# Altium schematic symbol library module.SchLib: 34 symbols
Pins are listed as number, name and electrical type; pins without a type are passive.

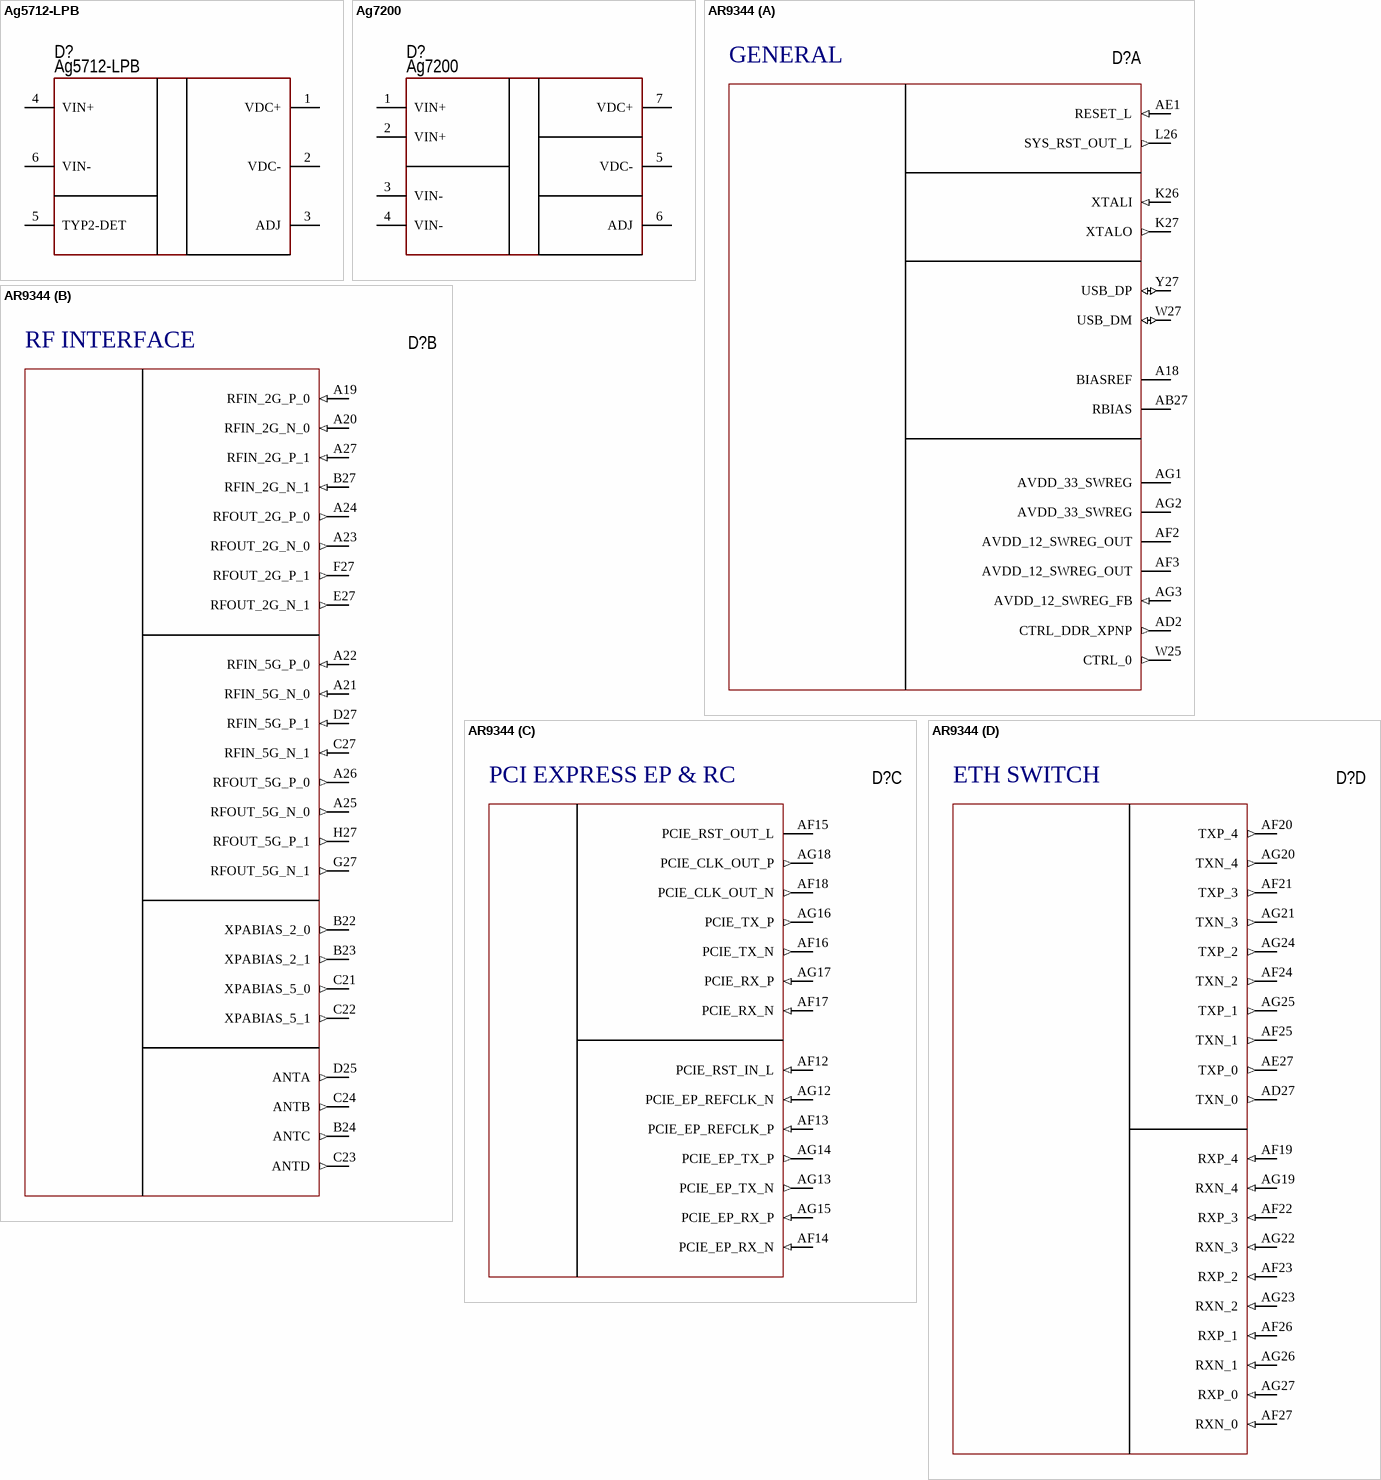
[diagram p0: symbols Ag5712-LPB to AR9344]

## Ag5712-LPB
designator D?  PartNumber: Ag5712-LPB
PoE PD converter; Manufacturer: Silver Telecom; TypeInterface: Ethernet; Voltage: 40...57V; HelpURL: https://silvertel.com/images/datasheets/Ag5700LPB-datasheet-minature%20IEEE802_3At%2024W%20power-over-ethernet%20module.pdf; Package: 31.75x20.32x13mm; ComponentType: PoE PD module; ValueManufacturerPartNumber: =ComponentType+', '+TypeStandart+', '+TypeInterface+', '+Temperature+', '+Package; Temperature: -40...+85°C
footprint MOD: AG5700-LPB
pins: 1 VDC+ (power), 2 VDC- (power), 3 ADJ, 4 VIN+ (power), 5 TYP2-DET, 6 VIN- (power)

## Ag7200
designator D?  PartNumber: Ag7200
DC/DC converter 20W; Manufacturer: Silver Telecom; InputVoltage: 5...15V; OutputVoltage: 36...57V; HelpURL: https://silvertel.com/images/datasheets/Ag7200-datasheet-20W-Isolated-57V-DC-DC-Boost-Converter-Module.pdf?_gl=1*17cjuq9*_up*MQ..*_gs*MQ..&gclid=CjwKCAjw3f_BBhAPEiwAaA3K5E97CBhWwPdFYdN1sbmhFfbjzRM8-UfQm90ZNIKu5eId4kfvsqbOuxoCPzIQAvD_BwE&gbraid=0AAAAAD_aoMibieYnhT7pEk2TKAHqrleRV; Package: 56x14x19mm; ComponentType: Isolated DC/DC; ValueManufacturerPartNumber: =ComponentType+', '+OutputVoltagr+', '+InputVoltage+', '+Temperature+', '+Package; Temperature: -40...+85°C
footprint MOD: Ag7200 (DC-DC)
pins: 1 VIN+ (power), 2 VIN+ (power), 3 VIN- (power), 4 VIN- (power), 5 VDC- (power), 6 ADJ, 7 VDC+ (power)

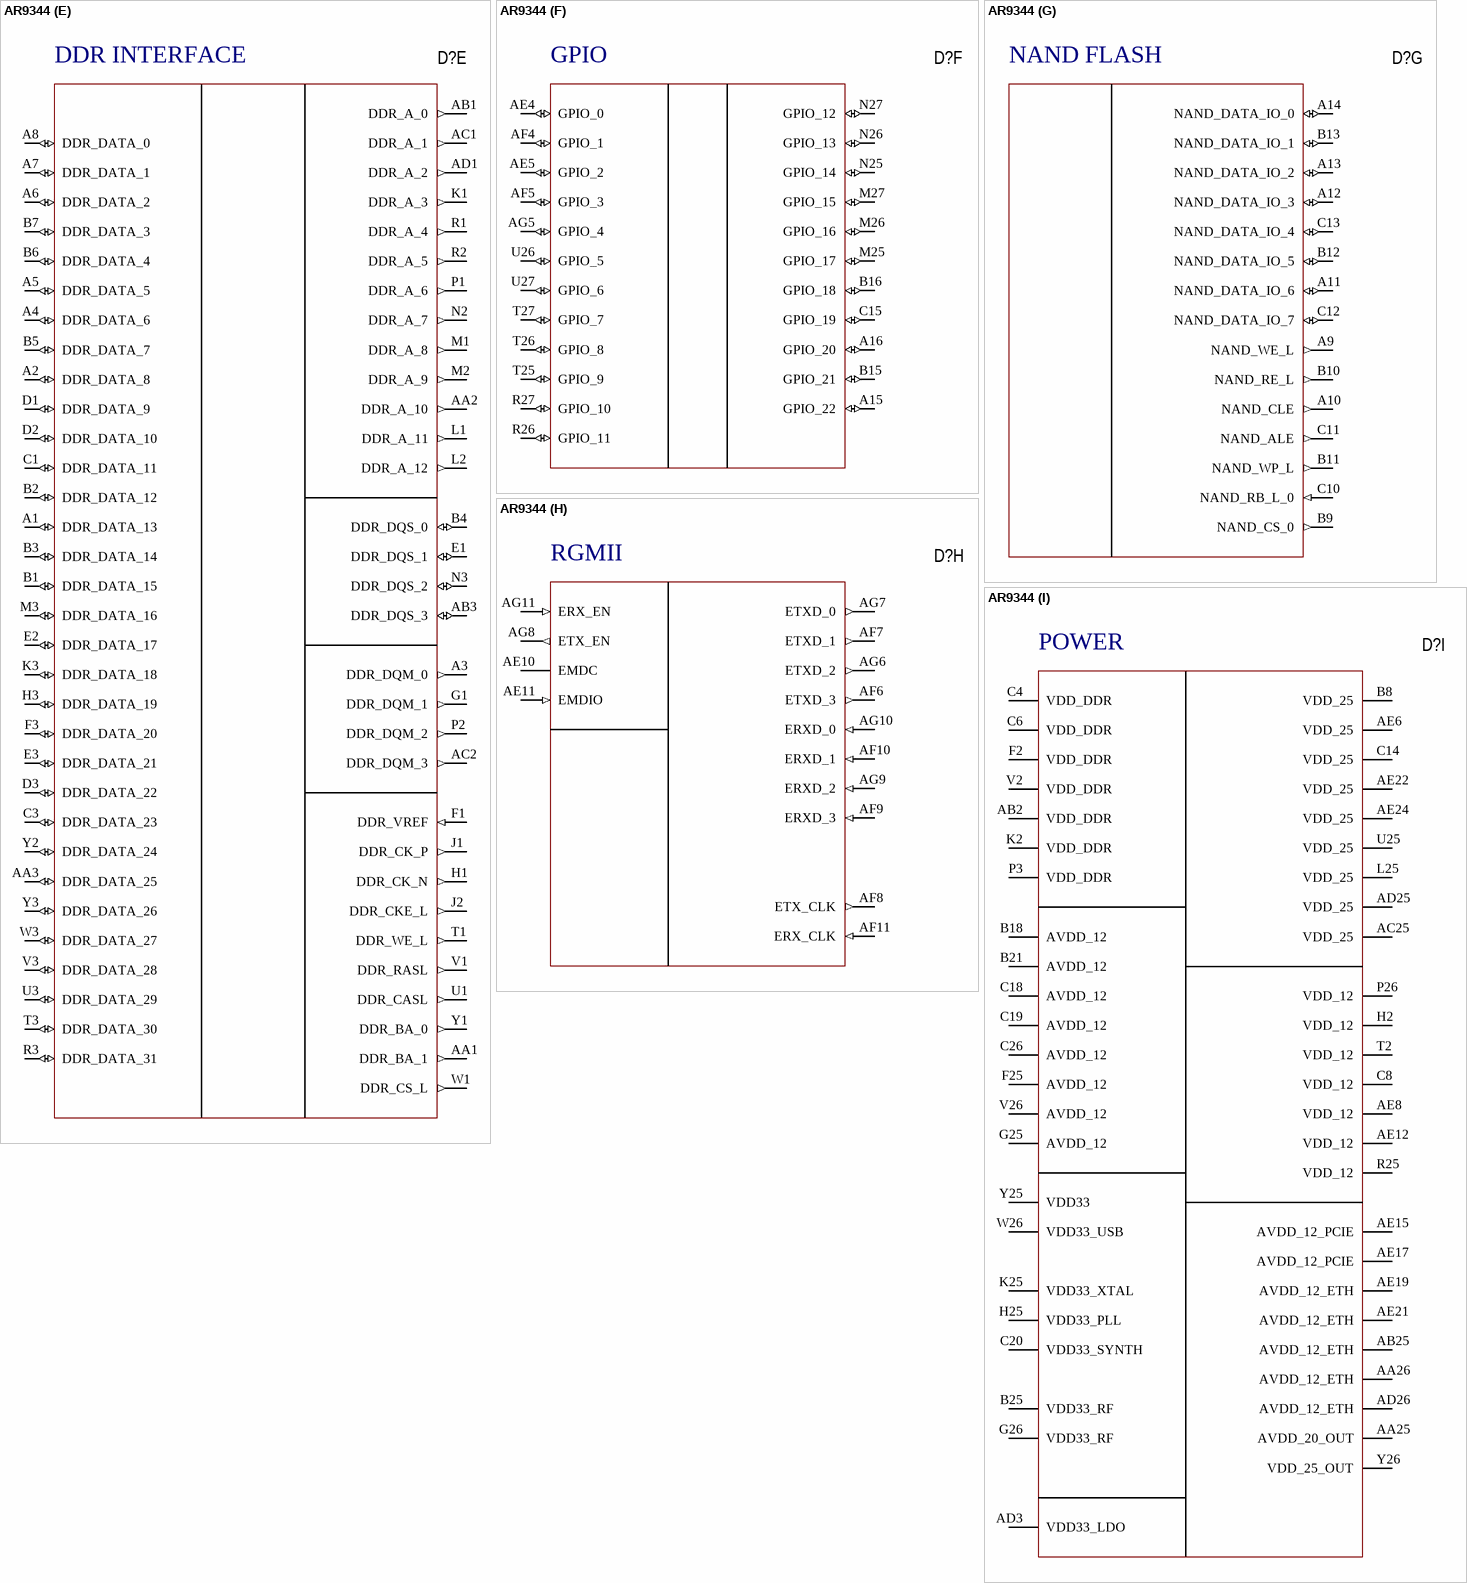
[diagram p1: symbol AR9344]

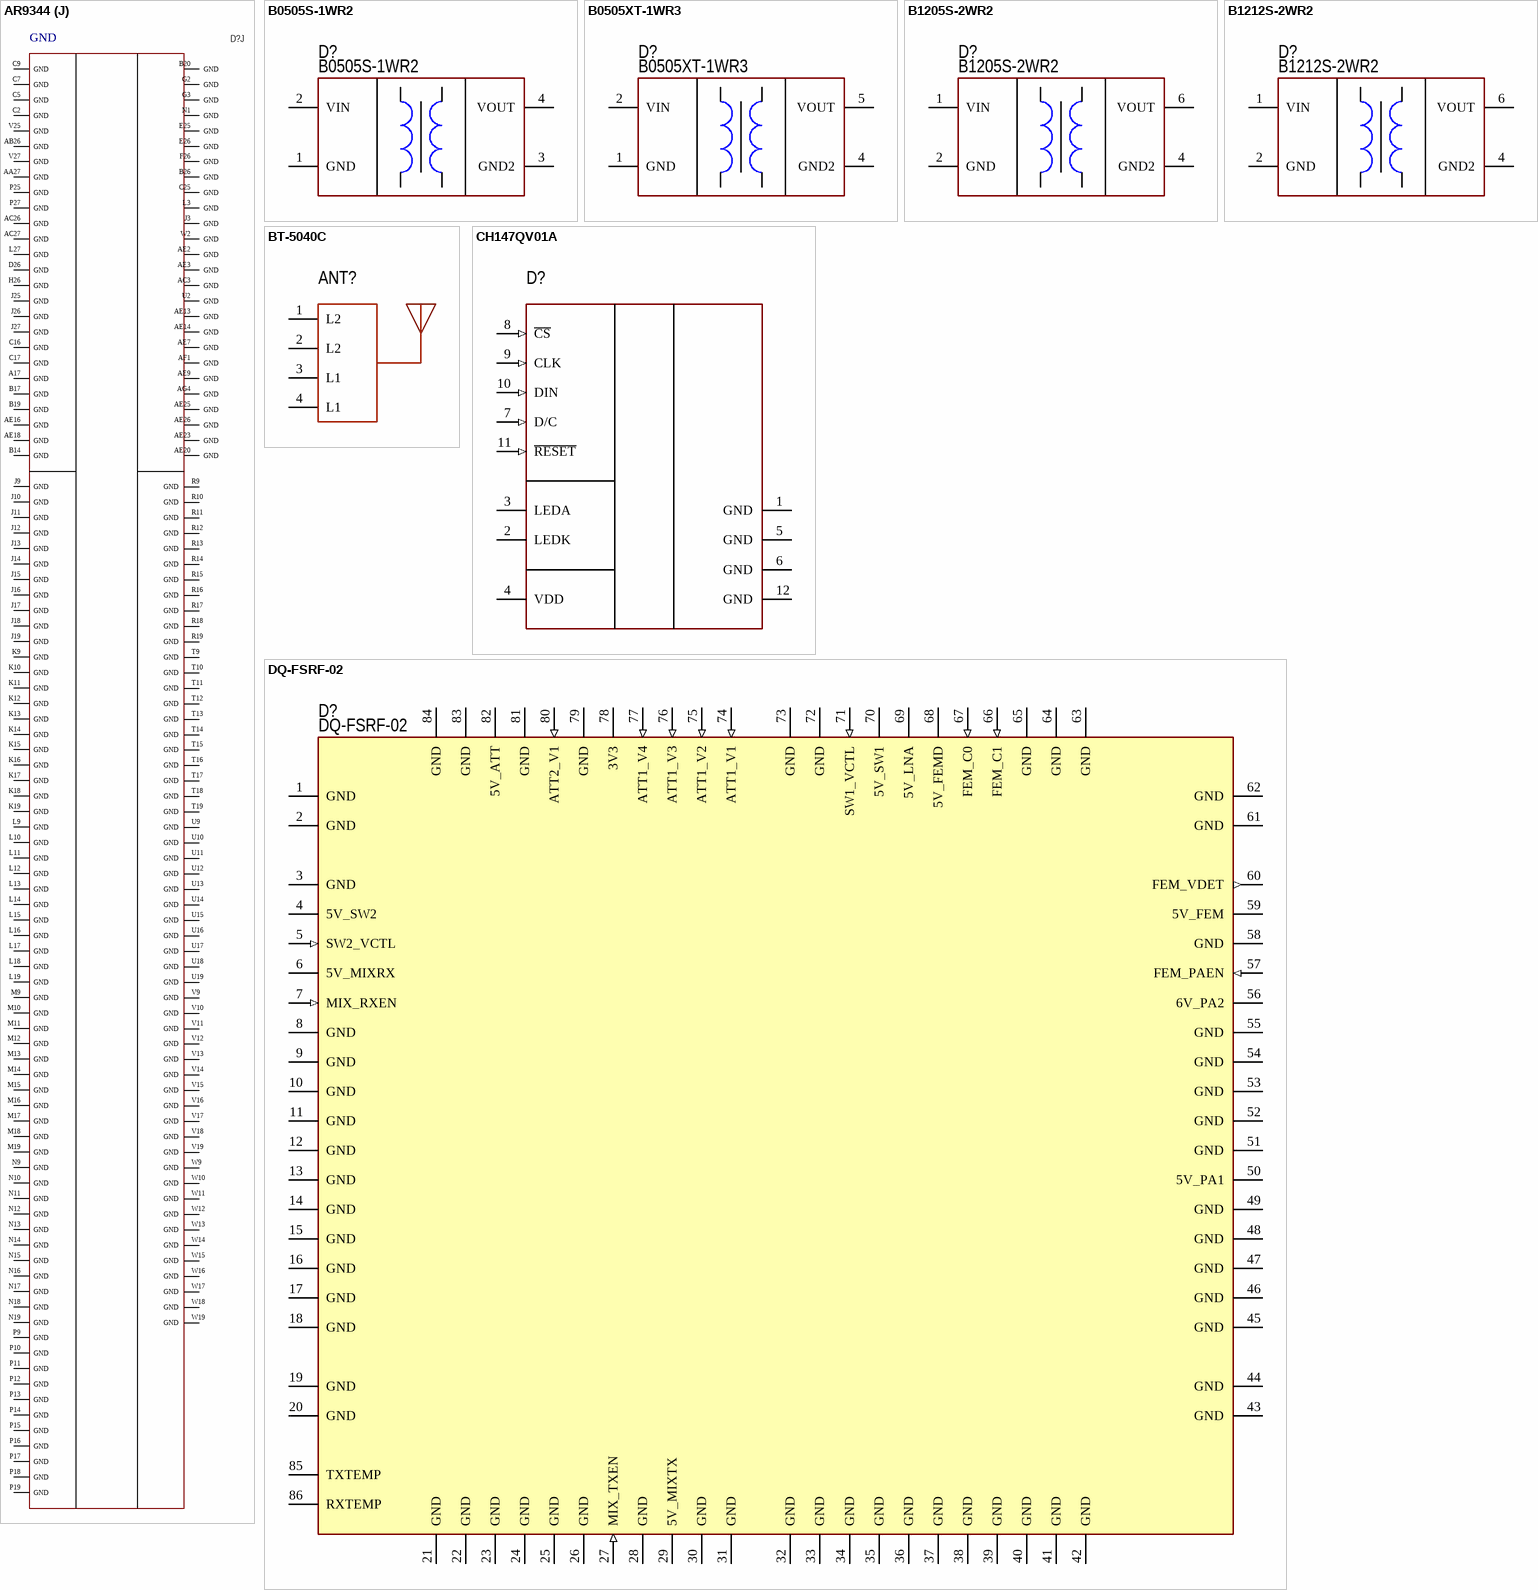
[diagram p2: symbols AR9344 to DQ-FSRF-02]

## AR9344
designator D?
Dual-band Wi-Fi SoC; Manufacturer: Atheros; ValueManufacturerPartNumber: Wi-Fi SoC, WiFi 802.11 b/g/n (802.11n up to 150 Mbps), MIPS 74kc, PCI, USB, xMII, UART, I2S, GPIO, ADC, DAC, -40...+85°C, 409-pin BGA; Core: MIPS 74kc; TypeInterface: PCI, USB, xMII, UART, I2S, GPIO, ADC, DAC; TypeStandart: WiFi 802.11 b/g/n (802.11n up to 150 Mbps); Package: 409-pin BGA; ComponentType: Wi-Fi SoC; Temperature: -40...+85°C
footprint 409-BGA (pitch 0.65 mm)
part A pins: A18 BIASREF, AB27 RBIAS, AD2 CTRL_DDR_XPNP (out), AE1 RESET_L (in), AF2 AVDD_12_SWREG_OUT (power), AF3 AVDD_12_SWREG_OUT (power), AG1 AVDD_33_SWREG (power), AG2 AVDD_33_SWREG (power), AG3 AVDD_12_SWREG_FB (in), K26 XTALI (in), K27 XTALO (out), L26 SYS_RST_OUT_L (out), W25 CTRL_0 (out), W27 USB_DM (io), Y27 USB_DP (io)
part B pins: A19 RFIN_2G_P_0 (in), A20 RFIN_2G_N_0 (in), A21 RFIN_5G_N_0 (in), A22 RFIN_5G_P_0 (in), A23 RFOUT_2G_N_0 (out), A24 RFOUT_2G_P_0 (out), A25 RFOUT_5G_N_0 (out), A26 RFOUT_5G_P_0 (out), A27 RFIN_2G_P_1 (in), B22 XPABIAS_2_0 (out), B23 XPABIAS_2_1 (out), B24 ANTC (out), B27 RFIN_2G_N_1 (in), C21 XPABIAS_5_0 (out), C22 XPABIAS_5_1 (out), C23 ANTD (out), C24 ANTB (out), C27 RFIN_5G_N_1 (in), D25 ANTA (out), D27 RFIN_5G_P_1 (in), E27 RFOUT_2G_N_1 (out), F27 RFOUT_2G_P_1 (out), G27 RFOUT_5G_N_1 (out), H27 RFOUT_5G_P_1 (out)
part C pins: AF12 PCIE_RST_IN_L (in), AF13 PCIE_EP_REFCLK_P (in), AF14 PCIE_EP_RX_N (in), AF15 PCIE_RST_OUT_L (oc), AF16 PCIE_TX_N (out), AF17 PCIE_RX_N (in), AF18 PCIE_CLK_OUT_N (out), AG12 PCIE_EP_REFCLK_N (in), AG13 PCIE_EP_TX_N (out), AG14 PCIE_EP_TX_P (out), AG15 PCIE_EP_RX_P (in), AG16 PCIE_TX_P (out), AG17 PCIE_RX_P (in), AG18 PCIE_CLK_OUT_P (out)
part D pins: AD27 TXN_0 (out), AE27 TXP_0 (out), AF19 RXP_4 (in), AF20 TXP_4 (out), AF21 TXP_3 (out), AF22 RXP_3 (in), AF23 RXP_2 (in), AF24 TXN_2 (out), AF25 TXN_1 (out), AF26 RXP_1 (in), AF27 RXN_0 (in), AG19 RXN_4 (in), AG20 TXN_4 (out), AG21 TXN_3 (out), AG22 RXN_3 (in), AG23 RXN_2 (in), AG24 TXP_2 (out), AG25 TXP_1 (out), AG26 RXN_1 (in), AG27 RXP_0 (in)
part E pins: A1 DDR_DATA_13 (io), A2 DDR_DATA_8 (io), A3 DDR_DQM_0 (out), A4 DDR_DATA_6 (io), A5 DDR_DATA_5 (io), A6 DDR_DATA_2 (io), A7 DDR_DATA_1 (io), A8 DDR_DATA_0 (io), AA1 DDR_BA_1 (out), AA2 DDR_A_10 (out), AA3 DDR_DATA_25 (io), AB1 DDR_A_0 (out), AB3 DDR_DQS_3 (io), AC1 DDR_A_1 (out), AC2 DDR_DQM_3 (out), AD1 DDR_A_2 (out), B1 DDR_DATA_15 (io), B2 DDR_DATA_12 (io), B3 DDR_DATA_14 (io), B4 DDR_DQS_0 (io), B5 DDR_DATA_7 (io), B6 DDR_DATA_4 (io), B7 DDR_DATA_3 (io), C1 DDR_DATA_11 (io), C3 DDR_DATA_23 (io), D1 DDR_DATA_9 (io), D2 DDR_DATA_10 (io), D3 DDR_DATA_22 (io), E1 DDR_DQS_1 (io), E2 DDR_DATA_17 (io), E3 DDR_DATA_21 (io), F1 DDR_VREF (in), F3 DDR_DATA_20 (io), G1 DDR_DQM_1 (out), H1 DDR_CK_N (out), H3 DDR_DATA_19 (io), J1 DDR_CK_P (out), J2 DDR_CKE_L (out), K1 DDR_A_3 (out), K3 DDR_DATA_18 (io), L1 DDR_A_11 (out), L2 DDR_A_12 (out), M1 DDR_A_8 (out), M2 DDR_A_9 (out), M3 DDR_DATA_16 (io), N2 DDR_A_7 (out), N3 DDR_DQS_2 (io), P1 DDR_A_6 (out), P2 DDR_DQM_2 (out), R1 DDR_A_4 (out), R2 DDR_A_5 (out), R3 DDR_DATA_31 (io), T1 DDR_WE_L (out), T3 DDR_DATA_30 (io), U1 DDR_CASL (out), U3 DDR_DATA_29 (io), V1 DDR_RASL (out), V3 DDR_DATA_28 (io), W1 DDR_CS_L (out), W3 DDR_DATA_27 (io), Y1 DDR_BA_0 (out), Y2 DDR_DATA_24 (io), Y3 DDR_DATA_26 (io)
part F pins: A15 GPIO_22 (io), A16 GPIO_20 (io), AE4 GPIO_0 (io), AE5 GPIO_2 (io), AF4 GPIO_1 (io), AF5 GPIO_3 (io), AG5 GPIO_4 (io), B15 GPIO_21 (io), B16 GPIO_18 (io), C15 GPIO_19 (io), M25 GPIO_17 (io), M26 GPIO_16 (io), M27 GPIO_15 (io), N25 GPIO_14 (io), N26 GPIO_13 (io), N27 GPIO_12 (io), R26 GPIO_11 (io), R27 GPIO_10 (io), T25 GPIO_9 (io), T26 GPIO_8 (io), T27 GPIO_7 (io), U26 GPIO_5 (io), U27 GPIO_6 (io)
part G pins: A9 NAND_WE_L (out), A10 NAND_CLE (out), A11 NAND_DATA_IO_6 (io), A12 NAND_DATA_IO_3 (io), A13 NAND_DATA_IO_2 (io), A14 NAND_DATA_IO_0 (io), B9 NAND_CS_0 (out), B10 NAND_RE_L (out), B11 NAND_WP_L (out), B12 NAND_DATA_IO_5 (io), B13 NAND_DATA_IO_1 (io), C10 NAND_RB_L_0 (in), C11 NAND_ALE (out), C12 NAND_DATA_IO_7 (io), C13 NAND_DATA_IO_4 (io)
part H pins: AE10 EMDC (oc), AE11 EMDIO (in), AF6 ETXD_3 (out), AF7 ETXD_1 (out), AF8 ETX_CLK (out), AF9 ERXD_3 (in), AF10 ERXD_1 (in), AF11 ERX_CLK (in), AG6 ETXD_2 (out), AG7 ETXD_0 (out), AG8 ETX_EN (out), AG9 ERXD_2 (in), AG10 ERXD_0 (in), AG11 ERX_EN (in)
part I pins: AA25 AVDD_20_OUT (power), AA26 AVDD_12_ETH (power), AB2 VDD_DDR (power), AB25 AVDD_12_ETH (power), AC25 VDD_25 (power), AD3 VDD33_LDO (power), AD25 VDD_25 (power), AD26 AVDD_12_ETH (power), AE6 VDD_25 (power), AE8 VDD_12 (power), AE12 VDD_12 (power), AE15 AVDD_12_PCIE (power), AE17 AVDD_12_PCIE (power), AE19 AVDD_12_ETH (power), AE21 AVDD_12_ETH (power), AE22 VDD_25 (power), AE24 VDD_25 (power), B8 VDD_25 (power), B18 AVDD_12 (power), B21 AVDD_12 (power), B25 VDD33_RF (power), C4 VDD_DDR (power), C6 VDD_DDR (power), C8 VDD_12 (power), C14 VDD_25 (power), C18 AVDD_12 (power), C19 AVDD_12 (power), C20 VDD33_SYNTH (power), C26 AVDD_12 (power), F2 VDD_DDR (power), F25 AVDD_12 (power), G25 AVDD_12 (power), G26 VDD33_RF (power), H2 VDD_12 (power), H25 VDD33_PLL (power), K2 VDD_DDR (power), K25 VDD33_XTAL (power), L25 VDD_25 (power), P3 VDD_DDR (power), P26 VDD_12 (power), R25 VDD_12 (power), T2 VDD_12 (power), U25 VDD_25 (power), V2 VDD_DDR (power), V26 AVDD_12 (power), W26 VDD33_USB (power), Y25 VDD33 (power), Y26 VDD_25_OUT (power)
part J pins: A17 GND (power), AA27 GND (power), AB26 GND (power), AC3 GND (power), AC26 GND (power), AC27 GND (power), AE2 GND (power), AE3 GND (power), AE7 GND (power), AE9 GND (power), AE13 GND (power), AE14 GND (power), AE16 GND (power), AE18 GND (power), AE20 GND (power), AE23 GND (power), AE25 GND (power), AE26 GND (power), AF1 GND (power), AG4 GND (power), B14 GND (power), B17 GND (power), B19 GND (power), B20 GND (power), B26 GND (power), C2 GND (power), C5 GND (power), C7 GND (power), C9 GND (power), C16 GND (power), C17 GND (power), C25 GND (power), D26 GND (power), E25 GND (power), E26 GND (power), F26 GND (power), G2 GND (power), G3 GND (power), H26 GND (power), J3 GND (power), J9 GND (power), J10 GND (power), J11 GND (power), J12 GND (power), J13 GND (power), J14 GND (power), J15 GND (power), J16 GND (power), J17 GND (power), J18 GND (power), J19 GND (power), J25 GND (power), J26 GND (power), J27 GND (power), K9 GND (power), K10 GND (power), K11 GND (power), K12 GND (power), K13 GND (power), K14 GND (power), K15 GND (power), K16 GND (power), K17 GND (power), K18 GND (power), K19 GND (power), L3 GND (power), L9 GND (power), L10 GND (power), L11 GND (power), L12 GND (power), L13 GND (power), L14 GND (power), L15 GND (power), L16 GND (power), L17 GND (power), L18 GND (power), L19 GND (power), L27 GND (power), M9 GND (power), M10 GND (power), M11 GND (power), M12 GND (power), M13 GND (power), M14 GND (power), M15 GND (power), M16 GND (power), M17 GND (power), M18 GND (power), M19 GND (power), N1 GND (power), N9 GND (power), N10 GND (power), N11 GND (power), N12 GND (power), N13 GND (power), N14 GND (power), N15 GND (power), N16 GND (power), N17 GND (power), N18 GND (power), N19 GND (power), P9 GND (power), P10 GND (power), P11 GND (power), P12 GND (power), P13 GND (power), P14 GND (power), P15 GND (power), P16 GND (power), P17 GND (power), P18 GND (power), P19 GND (power), P25 GND (power), P27 GND (power), R9 GND (power), R10 GND (power), R11 GND (power), R12 GND (power), R13 GND (power), R14 GND (power), R15 GND (power), R16 GND (power), R17 GND (power), R18 GND (power), R19 GND (power), T9 GND (power), T10 GND (power), T11 GND (power), T12 GND (power), T13 GND (power), T14 GND (power), T15 GND (power), T16 GND (power), T17 GND (power), T18 GND (power), T19 GND (power), U2 GND (power), U9 GND (power), U10 GND (power), U11 GND (power), U12 GND (power), U13 GND (power), U14 GND (power), U15 GND (power), U16 GND (power), U17 GND (power), U18 GND (power), U19 GND (power), V9 GND (power), V10 GND (power), V11 GND (power), V12 GND (power), V13 GND (power), V14 GND (power), V15 GND (power), V16 GND (power), V17 GND (power), V18 GND (power), V19 GND (power), V25 GND (power), V27 GND (power), W2 GND (power), W9 GND (power), W10 GND (power), W11 GND (power), W12 GND (power), W13 GND (power), W14 GND (power), W15 GND (power), W16 GND (power), W17 GND (power), W18 GND (power), W19 GND (power)
part A text: GENERAL
part B text: RF INTERFACE
part C text: PCI EXPRESS EP & RC
part D text: ETH SWITCH
part E text: DDR INTERFACE
part F text: GPIO
part G text: NAND FLASH
part H text: RGMII
part I text: POWER

## B0505S-1WR2
designator D?  PartNumber: B0505S-1WR2
DC/DC converter; Manufacturer: Mornsun; ValueManufacturerPartNumber: DC/DC converter, isolator, 5V 200mA, -40...+105°C, SIP-4; OutputType: isolator; OutputVoltage: 5V 200mA; HelpURL: https://www.chipdip.ru/product/b0505s-1wr2; Package: SIP-4; ComponentType: DC/DC converter; Temperature: -40...+105°C
footprint MOD: SIP-4 (B0505S-1W)
pins: 1 GND (power), 2 VIN (power), 3 GND2 (power), 4 VOUT (power)

## B0505XT-1WR3
designator D?  PartNumber: B0505XT-1WR3
DC/DC converter; Manufacturer: Mornsun; ValueManufacturerPartNumber: DC/DC converter, isolator, 5V 200mA, -40...+105°C, SMD-8; OutputType: isolator; OutputVoltage: 5V 200mA; HelpURL: https://www.mornsun-power.com/html/products/35/0.25-3w-smd.html; Package: SMD-8; ComponentType: DC/DC converter; Temperature: -40...+105°C
footprint MOD: B0505XT-1WR3
pins: 1 GND (power), 2 VIN (power), 4 GND2 (power), 5 VOUT (power)

## B1205S-2WR2
designator D?  PartNumber: B1205S-2WR2
DC/DC converter; Manufacturer: YLPTEC; ValueManufacturerPartNumber: DC/DC converter, isolator, 5V 400mA, -40...+105°C, SIP-7; OutputType: isolator; OutputVoltage: 5V 400mA; HelpURL: https://www.compel.ru/infosheet/MORNSUN/B1212S-2WR2; Package: SIP-7; ComponentType: DC/DC converter; Temperature: -40...+105°C
footprint MOD: SIP-7 (B1205S-2W)
pins: 1 VIN (power), 2 GND (power), 4 GND2 (power), 6 VOUT (power)

## B1212S-2WR2
designator D?  PartNumber: B1212S-2WR2
DC/DC converter; Manufacturer: Mornsun; ValueManufacturerPartNumber: DC/DC converter, isolator, 12V 167mA, -40...+105°C, SIP-7; OutputType: isolator; OutputVoltage: 12V 167mA; HelpURL: https://www.compel.ru/infosheet/MORNSUN/B1212S-2WR2; Package: SIP-7; ComponentType: DC/DC converter; Temperature: -40...+105°C
footprint MOD: SIP-7 (B1212S-2W)
pins: 1 VIN (power), 2 GND (power), 4 GND2 (power), 6 VOUT (power)

## BT-5040C
designator ANT?
GNSS Antenna; Manufacturer: Beitian; HelpURL: https://aliexpress.ru/item/1005001615247261.html?&sku_id=12000016821752174; Package: 50x50x10; ComponentType: GNSS antenna; ValueManufacturerPartNumber: =ComponentType+', '+TypeStandart+', '+Core+', '+TypeInterface+', '+Temperature+', '+Package; Temperature: -40...+85°C
footprint ANT: BT-5040C (Beitan GNSS antenna)
pins: 1 L2, 2 L2, 3 L1, 4 L1

## CH147QV01A
designator D?
Display; Manufacturer: China; PartNumber: CH147QV01A; DotsNumber: 176(RGB)x320; HelpURL: https://www.chenghaolcd.com/sale-14486940-1-47-inch-small-lcd-touch-screen-ips-172-320-with-driver-ic-st7789v3.html; Package: 19.39x36.28x1.46mm; ComponentType: Display; ValueManufacturerPartNumber: =ComponentType+', '+OutputType+', '+OutputVoltage+', '+Temperature+', '+Package; Temperature: -40...+85°C
footprint DISP: 1.47inch ST7789V3
pins: 1 GND (power), 2 LEDK, 3 LEDA, 4 VDD (power), 5 GND (power), 6 GND (power), 7 D/C (in) "Data Command selection", 8 ~{CS} (in), 9 CLK (in), 10 DIN (in), 11 ~{RESET} (in), 12 GND (power)

## DQ-FSRF-02
designator D?  PartNumber: DQ-FSRF-02
Frequency shifter RF board; Manufacturer: DigiQ-RF; ValueManufacturerPartNumber: RF module, -40...+85°C, 46x43.5mm; HelpURL: -; Package: 46x43.5mm; ComponentType: RF module; Temperature: -40...+85°C
footprint MOD: FrequencyShifterRF (V2 Castellated module)
pins: 1 GND (power), 2 GND (power), 3 GND (power), 4 5V_SW2 (power), 5 SW2_VCTL (in), 6 5V_MIXRX (power), 7 MIX_RXEN (in), 8 GND (power), 9 GND (power), 10 GND (power), 11 GND (power), 12 GND (power), 13 GND (power), 14 GND (power), 15 GND (power), 16 GND (power), 17 GND (power), 18 GND (power), 19 GND (power), 20 GND (power), 21 GND (power), 22 GND (power), 23 GND (power), 24 GND (power), 25 GND (power), 26 GND (power), 27 MIX_TXEN (in), 28 GND (power), 29 5V_MIXTX (power), 30 GND (power), 31 GND (power), 32 GND (power), 33 GND (power), 34 GND (power), 35 GND (power), 36 GND (power), 37 GND (power), 38 GND (power), 39 GND (power), 40 GND (power), 41 GND (power), 42 GND (power), 43 GND (power), 44 GND (power), 45 GND (power), 46 GND (power), 47 GND (power), 48 GND (power), 49 GND (power), 50 5V_PA1 (power), 51 GND (power), 52 GND (power), 53 GND (power), 54 GND (power), 55 GND (power), 56 6V_PA2 (power), 57 FEM_PAEN (in), 58 GND (power), 59 5V_FEM (power), 60 FEM_VDET (out), 61 GND (power), 62 GND (power), 63 GND (power), 64 GND (power), 65 GND (power), 66 FEM_C1 (in), 67 FEM_C0 (in), 68 5V_FEMD (power), 69 5V_LNA (power), 70 5V_SW1 (power), 71 SW1_VCTL (in), 72 GND (power), 73 GND (power), 74 ATT1_V1 (in), 75 ATT1_V2 (in), 76 ATT1_V3 (in), 77 ATT1_V4 (in), 78 3V3 (power), 79 GND (power), 80 ATT2_V1 (in), 81 GND (power), 82 5V_ATT (power), 83 GND (power), 84 GND (power), 85 TXTEMP, 86 RXTEMP

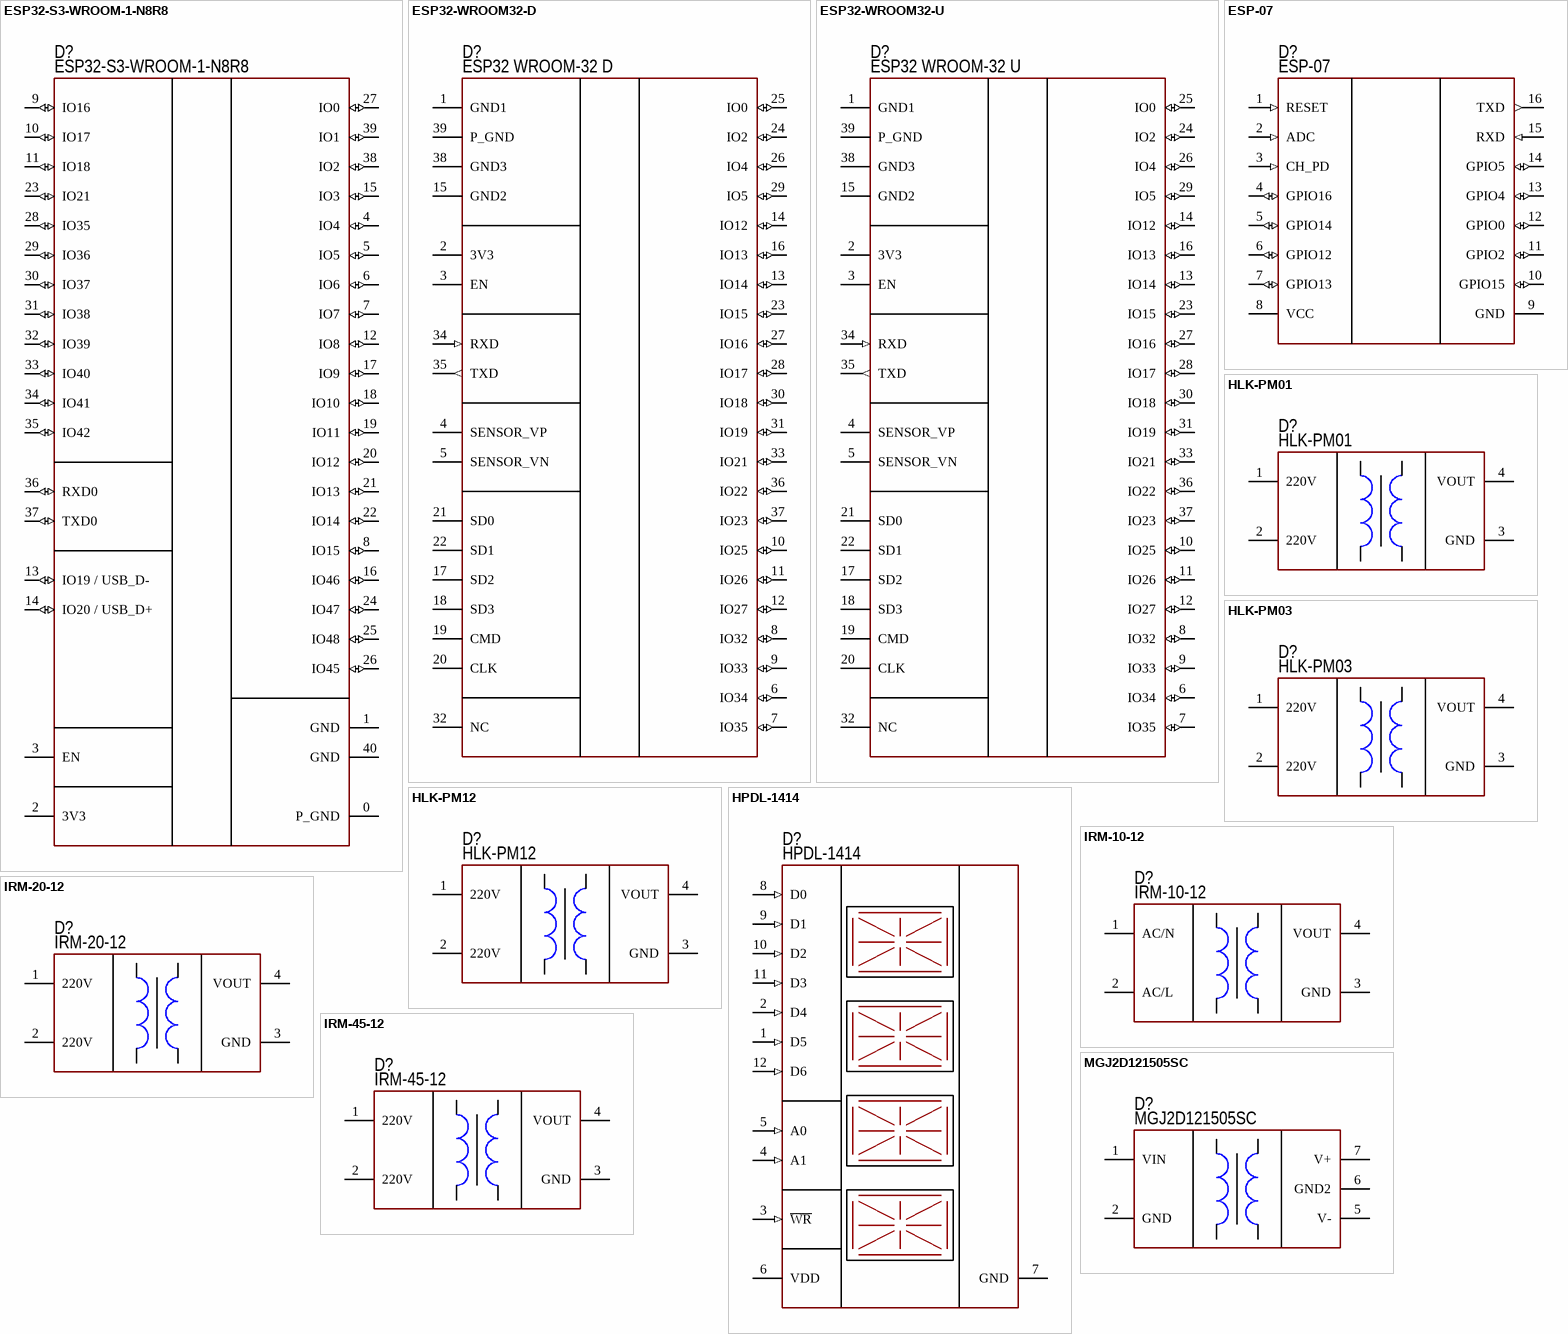
[diagram p3: symbols ESP32-S3-WROOM-1-N8R8 to MGJ2D121505SC]

## ESP32-S3-WROOM-1-N8R8
designator D?  PartNumber: ESP32-S3-WROOM-1-N8R8
Wi-Fi; Manufacturer: Espressif Systems; ValueManufacturerPartNumber: Wi-Fi module, WiFi 802.11 b/g/n (802.11n up to 150 Mbps) / Bluetooth v4.2 BR/EDR and BLE specification, 32 bit, SD card, UART, SPI, SDIO, I2C, LED PWM, Motor PWM, I2S, IR, pulse counter, GPIO, capacitive touch sensor, ADC, DAC, -40...+85°C, 18x25.5x3.1; Core: 32 bit; TypeInterface: SD card, UART, SPI, SDIO, I2C, LED PWM, Motor PWM, I2S, IR, pulse counter, GPIO, capacitive touch sensor, ADC, DAC; TypeStandart: WiFi 802.11 b/g/n (802.11n up to 150 Mbps) / Bluetooth v4.2 BR/EDR and BLE specification; HelpURL: https://www.espressif.com/sites/default/files/documentation/esp32-s3-wroom-1_wroom-1u_datasheet_en.pdf; Package: 18x25.5x3.1; ComponentType: Wi-Fi module; Temperature: -40...+85°C
footprint MOD: ESP32-S3-WROOM-1
pins: 0 P_GND (power), 1 GND (power), 2 3V3 (power), 3 EN, 4 IO4 (io), 5 IO5 (io), 6 IO6 (io), 7 IO7 (io), 8 IO15 (io), 9 IO16 (io), 10 IO17 (io), 11 IO18 (io), 12 IO8 (io), 13 IO19 / USB_D- (io), 14 IO20 / USB_D+ (io), 15 IO3 (io), 16 IO46 (io), 17 IO9 (io), 18 IO10 (io), 19 IO11 (io), 20 IO12 (io), 21 IO13 (io), 22 IO14 (io), 23 IO21 (io), 24 IO47 (io), 25 IO48 (io), 26 IO45 (io), 27 IO0 (io), 28 IO35 (io), 29 IO36 (io), 30 IO37 (io), 31 IO38 (io), 32 IO39 (io), 33 IO40 (io), 34 IO41 (io), 35 IO42 (io), 36 RXD0 (io), 37 TXD0 (io), 38 IO2 (io), 39 IO1 (io), 40 GND (power)

## ESP32-WROOM32-D
designator D?  PartNumber: ESP32 WROOM-32 D
Wi-Fi; Manufacturer: Espressif Systems; ValueManufacturerPartNumber: Wi-Fi module, WiFi 802.11 b/g/n (802.11n up to 150 Mbps) / Bluetooth v4.2 BR/EDR and BLE specification, 32 bit, SD card, UART, SPI, SDIO, I2C, LED PWM, Motor PWM, I2S, IR, pulse counter, GPIO, capacitive touch sensor, ADC, DAC, -40...+85°C, 18x25.5x3.1; Core: 32 bit; TypeInterface: SD card, UART, SPI, SDIO, I2C, LED PWM, Motor PWM, I2S, IR, pulse counter, GPIO, capacitive touch sensor, ADC, DAC; TypeStandart: WiFi 802.11 b/g/n (802.11n up to 150 Mbps) / Bluetooth v4.2 BR/EDR and BLE specification; HelpURL: https://www.espressif.com/sites/default/files/documentation/esp32-wroom-32d_esp32-wroom-32u_datasheet_en.pdf; Package: 18x25.5x3.1; ComponentType: Wi-Fi module; Temperature: -40...+85°C
footprint MOD: ESP32-WROOM32-D
pins: 1 GND1 (power), 2 3V3 (power), 3 EN, 4 SENSOR_VP, 5 SENSOR_VN, 6 IO34 (io), 7 IO35 (io), 8 IO32 (io), 9 IO33 (io), 10 IO25 (io), 11 IO26 (io), 12 IO27 (io), 13 IO14 (io), 14 IO12 (io), 15 GND2 (power), 16 IO13 (io), 17 SD2, 18 SD3, 19 CMD, 20 CLK, 21 SD0, 22 SD1, 23 IO15 (io), 24 IO2 (io), 25 IO0 (io), 26 IO4 (io), 27 IO16 (io), 28 IO17 (io), 29 IO5 (io), 30 IO18 (io), 31 IO19 (io), 32 NC, 33 IO21 (io), 34 RXD (in), 35 TXD (out), 36 IO22 (io), 37 IO23 (io), 38 GND3 (power), 39 P_GND (power)

## ESP32-WROOM32-U
designator D?  PartNumber: ESP32 WROOM-32 U
Wi-Fi; Manufacturer: Espressif Systems; ValueManufacturerPartNumber: Wi-Fi module, WiFi 802.11 b/g/n (802.11n up to 150 Mbps) / Bluetooth v4.2 BR/EDR and BLE specification, 32 bit, SD card, UART, SPI, SDIO, I2C, LED PWM, Motor PWM, I2S, IR, pulse counter, GPIO, capacitive touch sensor, ADC, DAC, -40...+85°C, 18x19.2x3.1; Core: 32 bit; TypeInterface: SD card, UART, SPI, SDIO, I2C, LED PWM, Motor PWM, I2S, IR, pulse counter, GPIO, capacitive touch sensor, ADC, DAC; TypeStandart: WiFi 802.11 b/g/n (802.11n up to 150 Mbps) / Bluetooth v4.2 BR/EDR and BLE specification; HelpURL: https://datasheet.lcsc.com/lcsc/1912261832_Espressif-Systems-ESP32-WROOM-32U_C328062.pdf; Package: 18x19.2x3.1; ComponentType: Wi-Fi module; Temperature: -40...+85°C
footprint MOD: ESP32-WROOM32-U
pins: 1 GND1 (power), 2 3V3 (power), 3 EN, 4 SENSOR_VP, 5 SENSOR_VN, 6 IO34 (io), 7 IO35 (io), 8 IO32 (io), 9 IO33 (io), 10 IO25 (io), 11 IO26 (io), 12 IO27 (io), 13 IO14 (io), 14 IO12 (io), 15 GND2 (power), 16 IO13 (io), 17 SD2, 18 SD3, 19 CMD, 20 CLK, 21 SD0, 22 SD1, 23 IO15 (io), 24 IO2 (io), 25 IO0 (io), 26 IO4 (io), 27 IO16 (io), 28 IO17 (io), 29 IO5 (io), 30 IO18 (io), 31 IO19 (io), 32 NC, 33 IO21 (io), 34 RXD (in), 35 TXD (out), 36 IO22 (io), 37 IO23 (io), 38 GND3 (power), 39 P_GND (power)

## ESP-07
designator D?  PartNumber: ESP-07
Wi-Fi; Manufacturer: Espressif Systems; ValueManufacturerPartNumber: Wi-Fi module, 802.11 b/g/n, 8 bit, SDIO/SPI/UART, -40...+85°C, 21x16mm; Core: 8 bit; TypeInterface: SDIO/SPI/UART; TypeStandart: 802.11 b/g/n; HelpURL: https://www.chipdip.ru/product/esp-07; Package: 21x16mm; ComponentType: Wi-Fi module; Temperature: -40...+85°C
footprint MOD: ESP-07
pins: 1 RESET (in), 2 ADC (in), 3 CH_PD (in), 4 GPIO16 (io), 5 GPIO14 (io), 6 GPIO12 (io), 7 GPIO13 (io), 8 VCC (power), 9 GND (power), 10 GPIO15 (io), 11 GPIO2 (io), 12 GPIO0 (io), 13 GPIO4 (io), 14 GPIO5 (io), 15 RXD (in), 16 TXD (out)

## HLK-PM01
designator D?  PartNumber: HLK-PM01
AC/DC converter; Manufacturer: Mornsun; ValueManufacturerPartNumber: AC/DC converter, isolator, 5V 600mA, 100...240VAC, -40...+105°C, 30x20x15mm; OutputType: isolator; OutputVoltage: 5V 600mA; InputVoltage: 100...240VAC; HelpURL: https://ru.aliexpress.com/item/32408565688.html; Package: 30x20x15mm; ComponentType: AC/DC converter; Temperature: -40...+105°C
footprint MOD: HLK-PM01
pins: 1 220V (power), 2 220V (power), 3 GND (power), 4 VOUT (power)

## HLK-PM03
designator D?  PartNumber: HLK-PM03
AC/DC converter; Manufacturer: Mornsun; ValueManufacturerPartNumber: AC/DC converter, isolator, 3V 900mA, 100...240VAC, -40...+105°C, 30x20x15mm; OutputType: isolator; OutputVoltage: 3V 900mA; InputVoltage: 100...240VAC; HelpURL: https://ru.aliexpress.com/item/32408565688.html; Package: 30x20x15mm; ComponentType: AC/DC converter; Temperature: -40...+105°C
footprint MOD: HLK-PM01
pins: 1 220V (power), 2 220V (power), 3 GND (power), 4 VOUT (power)

## HLK-PM12
designator D?  PartNumber: HLK-PM12
AC/DC converter; Manufacturer: Mornsun; ValueManufacturerPartNumber: AC/DC converter, isolator, 12V 250mA, 100...240VAC, -40...+105°C, 30x20x15mm; OutputType: isolator; OutputVoltage: 12V 250mA; InputVoltage: 100...240VAC; HelpURL: https://ru.aliexpress.com/item/32408565688.html; Package: 30x20x15mm; ComponentType: AC/DC converter; Temperature: -40...+105°C
footprint MOD: HLK-PM01
pins: 1 220V (power), 2 220V (power), 3 GND (power), 4 VOUT (power)

## HPDL-1414
designator D?  PartNumber: HPDL-1414
Display; Manufacturer: Agilent/HP; HelpURL: http://www.farnell.com/datasheets/76528.pdf; Package: HPDL-1414; ComponentType: Display; ValueManufacturerPartNumber: =ComponentType+', '+OutputType+', '+OutputVoltage+', '+Temperature+', '+Package; Temperature: -40...+85°C
footprint DISPLAY: HPDL-1414 (HPDL-1414)
pins: 1 D5 (in), 2 D4 (in), 3 ~{WR} (in), 4 A1 (in), 5 A0 (in), 6 VDD (power), 7 GND (power), 8 D0 (in), 9 D1 (in), 10 D2 (in), 11 D3 (in), 12 D6 (in)

## IRM-10-12
designator D?  PartNumber: IRM-10-12
AC/DC converter; Manufacturer: MEAN WELL; ValueManufacturerPartNumber: AC/DC converter, isolator, 12V 850mA, 85...265VAC, -30...+70°C, 4-DIP; OutputType: isolator; OutputVoltage: 12V 850mA; InputVoltage: 85...265VAC; HelpURL: https://www.digikey.com/products/en?keywords=IRM-10-12; Package: 4-DIP; ComponentType: AC/DC converter; Temperature: -30...+70°C
footprint MOD: IRM-10-12
pins: 1 AC/N (power), 2 AC/L (power), 3 GND (power), 4 VOUT (power)

## IRM-20-12
designator D?  PartNumber: IRM-20-12
AC/DC converter; Manufacturer: MEAN WELL; ValueManufacturerPartNumber: AC/DC converter, isolator, 12V 1.8A, 85...265VAC, -30...+70°C, 4-DIP; OutputType: isolator; OutputVoltage: 12V 1.8A; InputVoltage: 85...265VAC; HelpURL: https://www.digikey.com/products/en?keywords=IRM-20-12; Package: 4-DIP; ComponentType: AC/DC converter; Temperature: -30...+70°C
footprint MOD: IRM-20-12
pins: 1 220V (power), 2 220V (power), 3 GND (power), 4 VOUT (power)

## IRM-45-12
designator D?  PartNumber: IRM-45-12
AC/DC converter; Manufacturer: MEAN WELL; ValueManufacturerPartNumber: AC/DC converter, isolator, 12V 3.8A, 85...265VAC, -30...+70°C, 4-DIP; OutputType: isolator; OutputVoltage: 12V 3.8A; InputVoltage: 85...265VAC; HelpURL: https://www.digikey.com/product-detail/en/mean-well-usa-inc/IRM-45-12/1866-3053-ND/7704678; Package: 4-DIP; ComponentType: AC/DC converter; Temperature: -30...+70°C
footprint MOD: IRM-45-12
pins: 1 220V (power), 2 220V (power), 3 GND (power), 4 VOUT (power)

## MGJ2D121505SC
designator D?  PartNumber: MGJ2D121505SC
DC/DC converter; Manufacturer: Murata; ValueManufacturerPartNumber: DC/DC converter, isolator 5200V, +15/-5V 2W, -40...+100°C, SIP-7; OutputType: isolator 5200V; OutputVoltage: +15/-5V 2W; HelpURL: https://www.digikey.com/product-detail/en/murata-power-solutions-inc/MGJ2D121505SC/811-3001-5-ND/4840068; Package: SIP-7; ComponentType: DC/DC converter; Temperature: -40...+100°C
footprint MOD: MGJ2D121505SC (SIP-7)
pins: 1 VIN (power), 2 GND (power), 5 V- (power), 6 GND2 (power), 7 V+ (power)

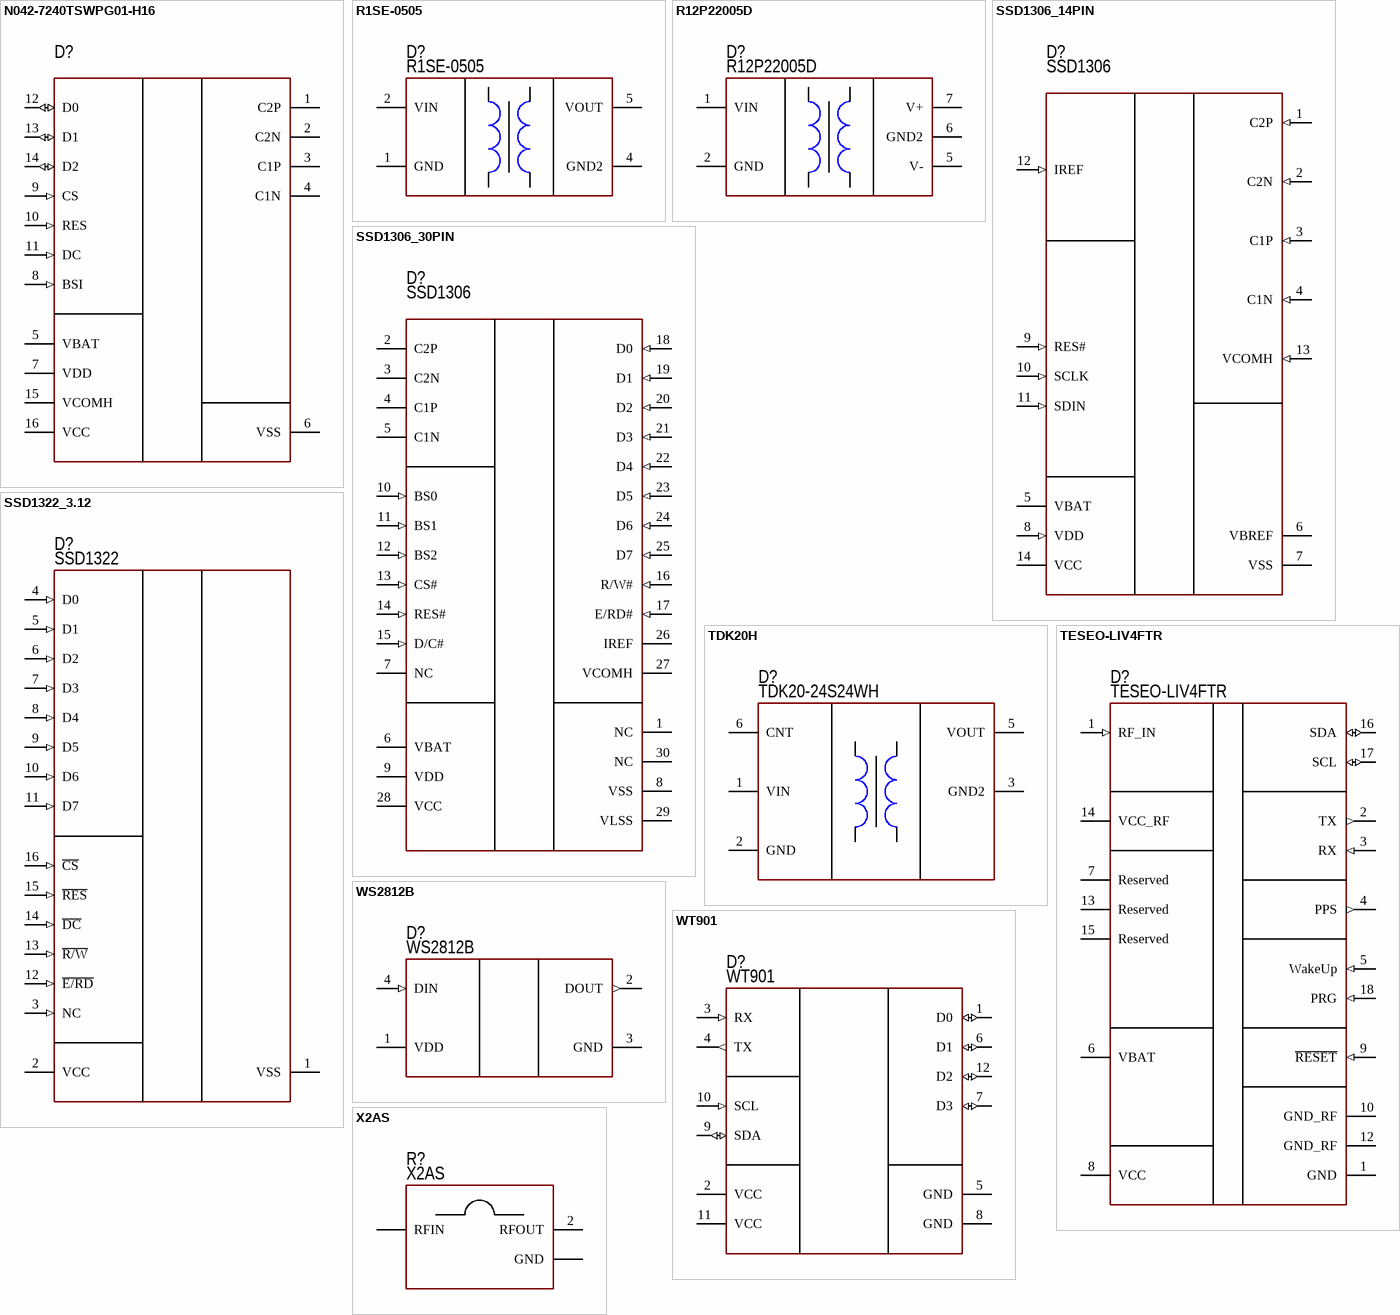
[diagram p4: symbols N042-7240TSWPG01-H16 to X2AS]

## N042-7240TSWPG01-H16
designator D?
OLED Display 72x40; Manufacturer: Newvisio; PartNumber: N042-7240TSWPG01-H16; HelpURL: https://datasheet.lcsc.com/lcsc/2206161801_Newvisio-N042-7240TSWPG01-H16_C2890602.pdf; Package: 12x11x1.25mm; ComponentType: Display; ValueManufacturerPartNumber: =ComponentType+', '+OutputType+', '+OutputVoltage+', '+Temperature+', '+Package; Temperature: -40...+85°C; DotsNumber: 72x40
footprint DISP: 0.42inch OLED
pins: 1 C2P, 2 C2N, 3 C1P, 4 C1N, 5 VBAT (power), 6 VSS (power), 7 VDD (power), 8 BSI (in), 9 CS (in), 10 RES (in), 11 DC (in), 12 D0 (io), 13 D1 (io), 14 D2 (io), 15 VCOMH, 16 VCC (power)

## R1SE-0505
designator D?  PartNumber: R1SE-0505
DC/DC converter; Manufacturer: Recom Power; ValueManufacturerPartNumber: DC/DC converter, isolator, 5V 200mA, -40...+85°C, 8-SMD; OutputType: isolator; OutputVoltage: 5V 200mA; HelpURL: https://www.digikey.com/product-detail/en/recom-power/R1SE-0505/945-3306-ND/4503711; Package: 8-SMD; ComponentType: DC/DC converter; Temperature: -40...+85°C
footprint MOD: R1SE
pins: 1 GND (power), 2 VIN (power), 4 GND2 (power), 5 VOUT (power)

## R12P22005D
designator D?  PartNumber: R12P22005D
DC/DC converter; Manufacturer: Recom Power; ValueManufacturerPartNumber: DC/DC converter, isolator, +20/-5V 2W, -40...+105°C, SIP-7; OutputType: isolator; OutputVoltage: +20/-5V 2W; HelpURL: https://www.digikey.com/product-detail/en/recom-power/R12P22005D/945-3056-ND/5881287; Package: SIP-7; ComponentType: DC/DC converter; Temperature: -40...+105°C
footprint MOD: R12P22005D
pins: 1 VIN (power), 2 GND (power), 5 V- (power), 6 GND2 (power), 7 V+ (power)

## SSD1306_14PIN
designator D?  PartNumber: SSD1306
OLED display 128x32; Manufacturer: https://cdn-shop.adafruit.com/datasheets/SSD1306.pdf; HelpURL: https://cdn-shop.adafruit.com/datasheets/SSD1306.pdf; Package: Module; ComponentType: Display; ValueManufacturerPartNumber: =ComponentType+', '+OutputType+', '+OutputVoltage+', '+Temperature+', '+Package; Temperature: -40...+85°C
footprint MOD: OLED128X32_14PIN (OLED Display 128x32)
pins: 1 C2P (in), 2 C2N (in), 3 C1P (in), 4 C1N (in), 5 VBAT (power), 6 VBREF (power), 7 VSS (power), 8 VDD (in), 9 RES# (in), 10 SCLK (in), 11 SDIN (in), 12 IREF (in), 13 VCOMH (in), 14 VCC (power)

## SSD1306_30PIN
designator D?  PartNumber: SSD1306
OLED display 128x64; Manufacturer: https://cdn-shop.adafruit.com/datasheets/SSD1306.pdf; HelpURL: https://cdn-shop.adafruit.com/datasheets/SSD1306.pdf; Package: Module; ComponentType: Display; ValueManufacturerPartNumber: =ComponentType+', '+OutputType+', '+OutputVoltage+', '+Temperature+', '+Package; Temperature: -40...+85°C
footprint MOD: OLED128X64_30PIN (OLED Display 128x64)
pins: 1 NC (power), 2 C2P, 3 C2N, 4 C1P, 5 C1N, 6 VBAT (power), 7 NC, 8 VSS (power), 9 VDD (power), 10 BS0 (in), 11 BS1 (in), 12 BS2 (in), 13 CS# (in), 14 RES# (in), 15 D/C# (in), 16 R/W# (in), 17 E/RD# (in), 18 D0 (in), 19 D1 (in), 20 D2 (in), 21 D3 (in), 22 D4 (in), 23 D5 (in), 24 D6 (in), 25 D7 (in), 26 IREF, 27 VCOMH, 28 VCC (power), 29 VLSS (power), 30 NC (power)

## SSD1322_3.12
designator D?  PartNumber: SSD1322
Display; Manufacturer: https://aliexpress.ru/item/32953790969.html?spm=a2g0o.productlist.0.0.e2fd454cb8YX1Y&algo_pvid=9c7f6a6e-705c-4342-afb8-f7f55ff6e85a&algo_expid=9c7f6a6e-705c-4342-afb8-f7f55ff6e85a-7&btsid=0b8b034516249758078215317e3d65&ws_ab_test=searchweb0_0,searchweb201602_,searchweb201603_; HelpURL: https://aliexpress.ru/item/32953790969.html?spm=a2g0o.productlist.0.0.e2fd454cb8YX1Y&algo_pvid=9c7f6a6e-705c-4342-afb8-f7f55ff6e85a&algo_expid=9c7f6a6e-705c-4342-afb8-f7f55ff6e85a-7&btsid=0b8b034516249758078215317e3d65&ws_ab_test=searchweb0_0,searchweb201602_,searchweb201603_; Package: Module; ComponentType: Display; ValueManufacturerPartNumber: =ComponentType+', '+OutputType+', '+OutputVoltage+', '+Temperature+', '+Package; Temperature: -40...+85°C
footprint DISP: OLED_3.12_SSD1322
pins: 1 VSS (power), 2 VCC (power), 3 NC (in), 4 D0 (in), 5 D1 (in), 6 D2 (in), 7 D3 (in), 8 D4 (in), 9 D5 (in), 10 D6 (in), 11 D7 (in), 12 ~{E/RD} (in), 13 ~{R/W} (in), 14 ~{DC} (in), 15 ~{RES} (in), 16 ~{CS} (in)

## TDK20H
designator D?  PartNumber: TDK20-24S24WH
DC/DC converter; Manufacturer: TDPOWER; ValueManufacturerPartNumber: DC/DC converter, isolator, 24V 800mA, -40...+105°C, 25.4x25.4x12; OutputType: isolator; OutputVoltage: 24V 800mA; HelpURL: https://datasheet.lcsc.com/lcsc/2206101730_TDPOWER-TDK20-24S24WH_C3033163.pdf; Package: 25.4x25.4x12; ComponentType: DC/DC converter; Temperature: -40...+105°C
footprint MOD: TDPOWER TDK20 (20W DC-DC)
pins: 1 VIN (power), 2 GND (power), 3 GND2 (power), 5 VOUT (power), 6 CNT (power)

## TESEO-LIV4FTR
designator D?  PartNumber: TESEO-LIV4FTR
L1/5 GNSS module; Manufacturer: STMicroelectronics; Core: Teseo-LIV4; TypeInterface: I2C/UART; Bands: L1/L5; HelpURL: file:///C:/Users/ValentynM/Downloads/teseo-liv4f.pdf; Package: LCC-18 (9.7 x 10.1 mm); ComponentType: GNSS module; ValueManufacturerPartNumber: =ComponentType+', '+TypeStandart+', '+Core+', '+TypeInterface+', '+Temperature+', '+Package; Temperature: -40...+85°C
footprint MOD: LCC-18
pins: 1 GND (power), 1 RF_IN (in), 2 TX (out), 3 RX (in), 4 PPS (out), 5 WakeUp (in), 6 VBAT (power), 7 Reserved, 8 VCC (power), 9 ~{RESET} (in), 10 GND_RF (power), 12 GND_RF (power), 13 Reserved, 14 VCC_RF (power), 15 Reserved, 16 SDA (io), 17 SCL (io), 18 PRG (in)

## WS2812B
designator D?  PartNumber: WS2812B
Intelligent control LED; Manufacturer: Worldsemi; HelpURL: https://www.lcsc.com/datasheet/lcsc_datasheet_2106062036_Worldsemi-WS2812B-B-T_C2761795.pdf; Package: 5x5mm; ComponentType: Intelligent control LED; ValueManufacturerPartNumber: =ComponentType+', '+OutputType+', '+OutputVoltage+', '+Temperature+', '+Package; Temperature: -40...+85°C
footprint MOD: WS2812B (Bandpass Filter)
pins: 1 VDD (power), 2 DOUT (out), 3 GND (power), 4 DIN (in)

## WT901
designator D?  PartNumber: WT901
IMU module; Manufacturer: WitMotion; Core: 32 bit; TypeInterface: I2C/UART; Voltage: 3.3-5V; HelpURL: https://www.aliexpress.com/item/1005002976935046.html?spm=a2g0o.productlist.0.0.61d958e92G604Y&algo_pvid=846dab77-59d8-4796-a94a-9add0efc705c&algo_exp_id=846dab77-59d8-4796-a94a-9add0efc705c-3&pdp_ext_f=%7B%22sku_id%22%3A%2212000023035800472%22%7D&pdp_npi=2%40dis%21EUR%2134.96%2131.46%21%21%21%21%21%402101e9d316621950299047276e1eef%2112000023035800472%21sea&curPageLogUid=a8MrRbGKgY9j; Package: 15.24x15.24mm; ComponentType: IMU module; ValueManufacturerPartNumber: =ComponentType+', '+TypeStandart+', '+Core+', '+TypeInterface+', '+Temperature+', '+Package; Temperature: -40...+85°C
footprint MOD: WT901 (IMU module)
pins: 1 D0 (io), 2 VCC (power), 3 RX (in), 4 TX (out), 5 GND (power), 6 D1 (io), 7 D3 (io), 8 GND (power), 9 SDA (io), 10 SCL (in), 11 VCC (power), 12 D2 (io)

## X2AS
designator R?  PartNumber: X2AS
RF Crossover; Manufacturer: Anaren; FrequencyRange: 0...6 GHz; HelpURL: https://www.mouser.ee/datasheet/2/21/X2AS_97_F-3011780.pdf; Package: 5.08x5.08mm; ComponentType: RF Crossover; ValueManufacturerPartNumber: =ComponentType+', '+OutputType+', '+OutputVoltage+', '+Temperature+', '+Package; Temperature: -55...+85°C
footprint MOD: X2AS (Low profile crossover)
pins: 0 GND (power), 1 RFIN (power), 2 RFOUT (power)

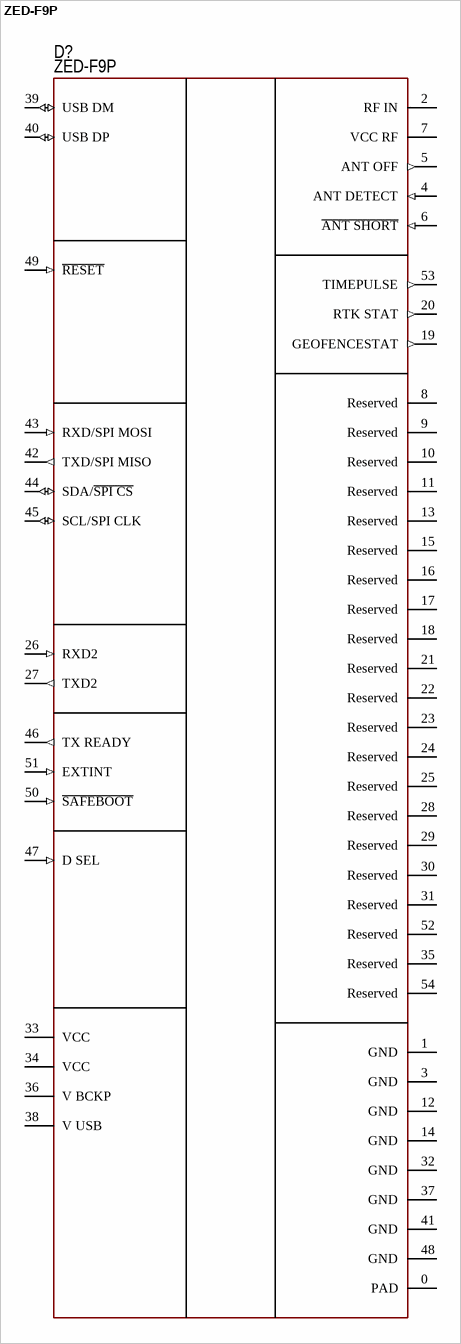
[diagram p5: symbol ZED-F9P]

## ZED-F9P
designator D?  PartNumber: ZED-F9P
High precision GNSS module; Manufacturer: ublox; HelpURL: https://www.u-blox.com/sites/default/files/ZED-F9P_DataSheet_%28UBX-17051259%29.pdf; Package: 21.8x16.8x2.2; ComponentType: GNSS module; ValueManufacturerPartNumber: =ComponentType+', '+TypeStandart+', '+Core+', '+TypeInterface+', '+Temperature+', '+Package; Temperature: -40...+85°C
footprint MOD: ZED-F9P
pins: 0 PAD (power), 1 GND (power), 2 RF IN, 3 GND (power), 4 ANT DETECT (in), 5 ANT OFF (out), 6 ~{ANT SHORT} (in), 7 VCC RF (power), 8 Reserved, 9 Reserved, 10 Reserved, 11 Reserved, 12 GND (power), 13 Reserved, 14 GND (power), 15 Reserved, 16 Reserved, 17 Reserved, 18 Reserved, 19 GEOFENCESTAT (out), 20 RTK STAT (out), 21 Reserved, 22 Reserved, 23 Reserved, 24 Reserved, 25 Reserved, 26 RXD2 (in), 27 TXD2 (out), 28 Reserved, 29 Reserved, 30 Reserved, 31 Reserved, 32 GND (power), 33 VCC (power), 34 VCC (power), 35 Reserved, 36 V BCKP (power), 37 GND (power), 38 V USB (power), 39 USB DM (io), 40 USB DP (io), 41 GND (power), 42 TXD/SPI MISO (out), 43 RXD/SPI MOSI (in), 44 SDA/~{SPI CS} (io), 45 SCL/SPI CLK (io), 46 TX READY (out), 47 D SEL (in), 48 GND (power), 49 ~{RESET} (in), 50 ~{SAFEBOOT} (in), 51 EXTINT (in), 52 Reserved, 53 TIMEPULSE (out), 54 Reserved